# EAGLE library part CTS746X101 (library di_ic)
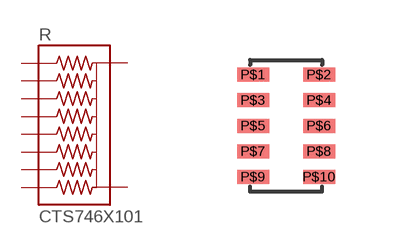
[diagram p9: symbol with the pads of CTS746; footprint CTS746]

Designator prefix R

## CTS746X101  [CTS746]
P$1  2  pas
P$2  1  pas
P$3  3  pas
P$4  4  pas
P$5  5  pas
P$6  6  pas
P$7  7  pas
P$8  8  pas
P$9  10  pas
P$10  9  pas

## Footprint CTS746 (pad centres in mm)
smd 0.8 x 0.35: P$1 -0.83,1.28; P$2 0.82,1.28; P$3 -0.83,0.64; P$4 0.82,0.64; P$5 -0.83,0; P$6 0.82,0; P$7 -0.83,-0.64; P$8 0.82,-0.64; P$9 -0.83,-1.28; P$10 0.82,-1.28